# Altium schematic symbol library kmilo17pet-LT_PMIC_LT.SchLib: 2252 symbols (part 99 of 124)
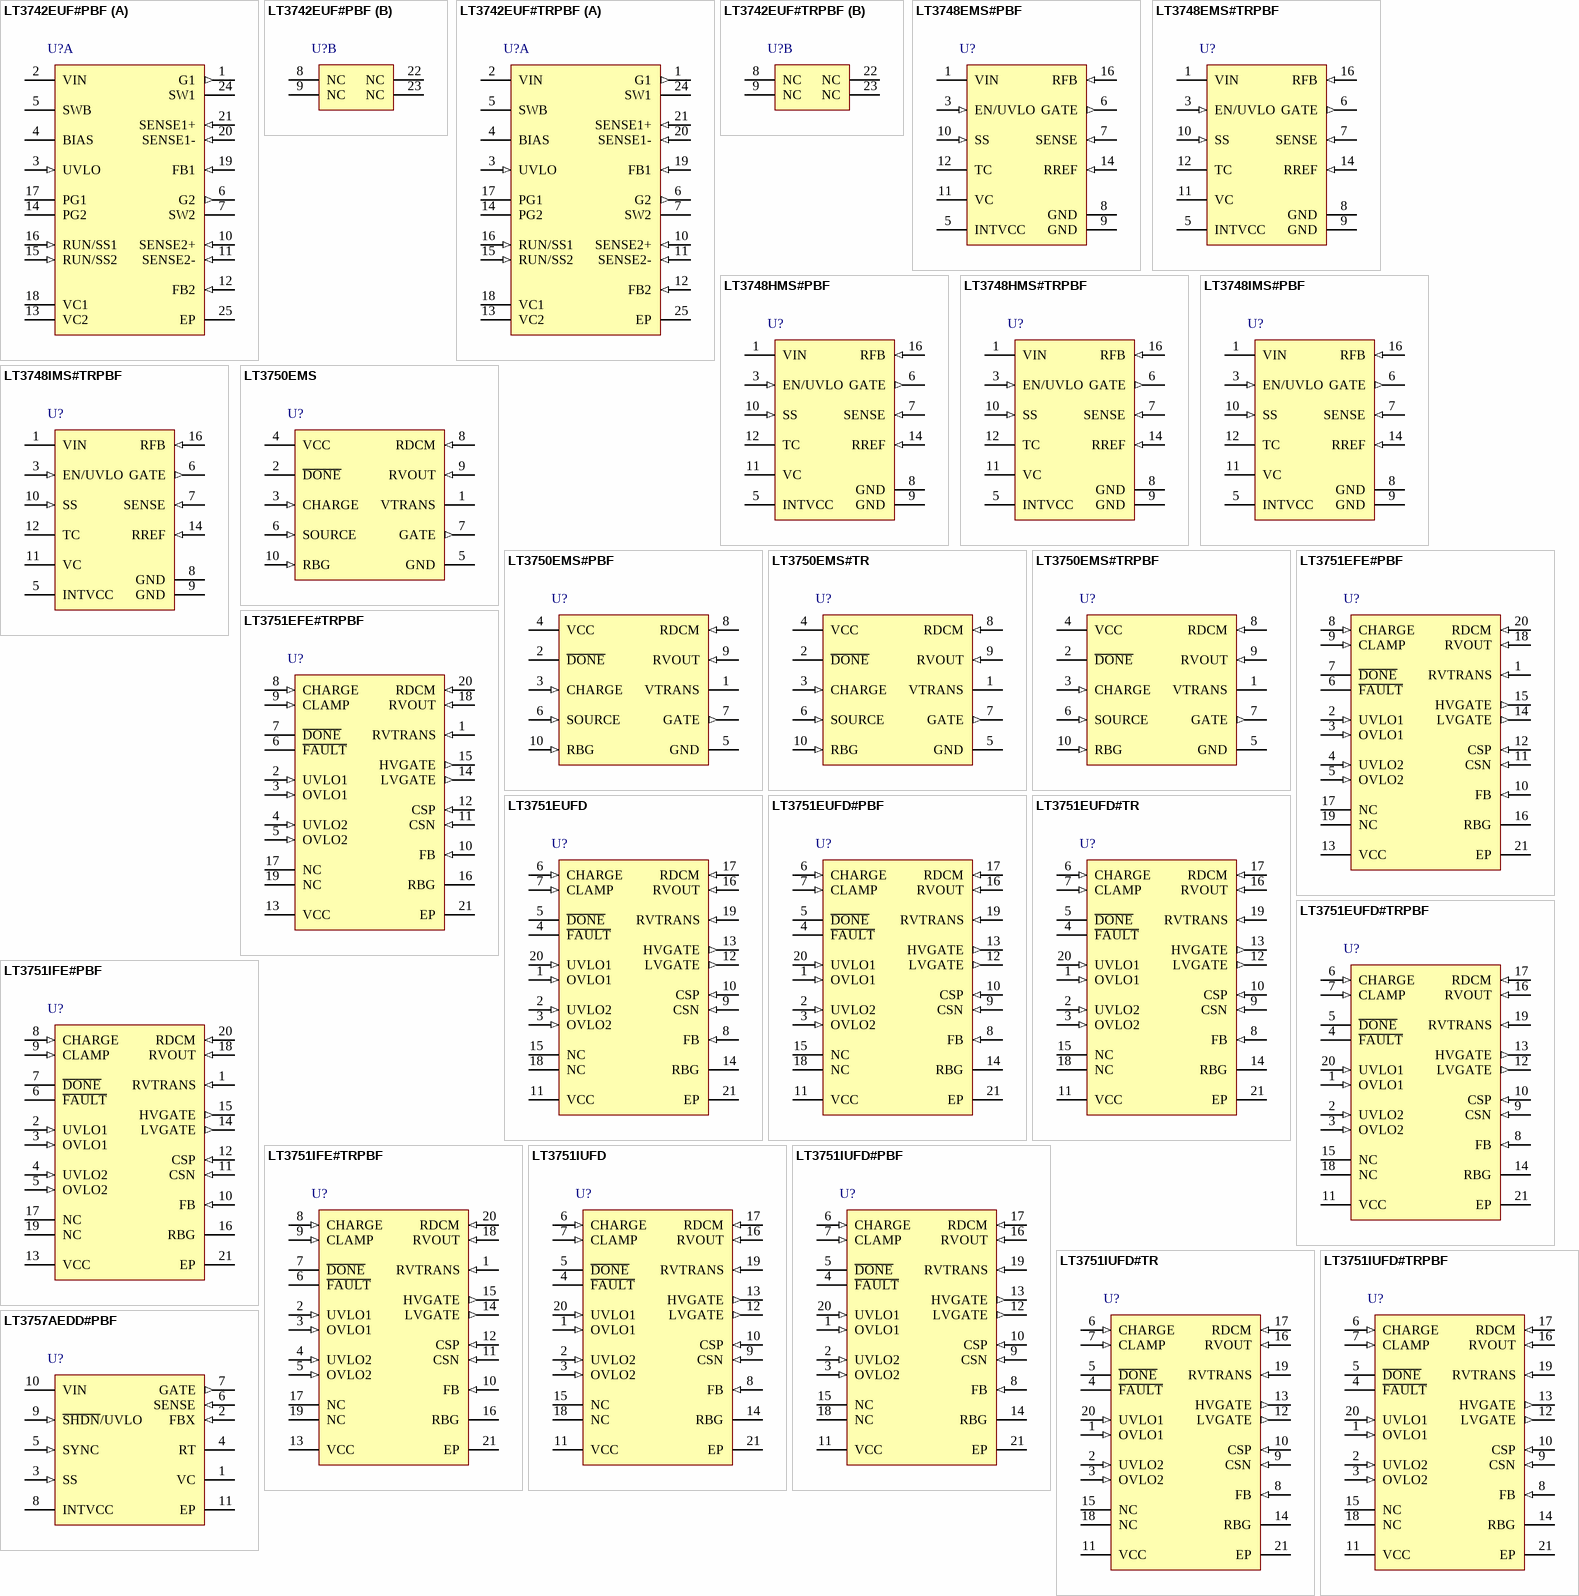
[diagram p169: symbols LT3742EUF#PBF to LT3757AEDD#PBF]

## LT3750EMS#TR
designator U?
Capacitor Charger Controller, 10-pin SOP (MS-10), -40 to 85 degC, Tape and Reel; Manufacturer: Linear Technology; PartNumber: LT3750EMS#TR; Number of Outputs: 1; PackageReference: MS-10; PackageDescription: 10-Pin Plastic MSOP, Body 3 x 3 mm, Pitch 0.5 mm; RoHS: FALSE
footprint LT-MS-10_N (SOP, 10-Leads, Body 3.1x3.1mm, Pitch 0.5mm, IPC Medium Density)
footprint LT-MS-10_L (SOP, 10-Leads, Body 3.1x3.1mm, Pitch 0.5mm, IPC High Density)
footprint LT-MS-10_M (SOP, 10-Leads, Body 3.1x3.1mm, Pitch 0.5mm, IPC Low Density)
pins: 1 VTRANS (power) "Transformer Supply Pin. Powers the primary coil of the transformer as well as internal circuitry that performs boundary mode detection. Bypass at the pin with a 1uF to 10uF capacitor. Bypass the primary winding of the (See Datasheet)", 2 ~{DONE} (oc) "Open Collector Indication Pin. When target output voltage is reached, an NPN transistor turns on. Requires a pull-up resistor or current source. Any fault conditions such as thermal shutdown or undervoltage lockout will also (See Datasheet)", 3 CHARGE (in) "Charge Pin. Initiates a new charge cycle when brought high or discontinues charging and puts part into shutdown when low. To properly enable the device, a step input with a minimum ramp rate of 1V/us is required. Drive to 1.(See Datasheet)", 4 VCC (power) "Input Supply Pin. Bypass locally with a ceramic capacitor. A 1uF to 10uF ceramic capacitor should be sufficient for most applications.", 5 GND (power) "Ground Pin. Connect directly to local ground plane.", 6 SOURCE (in) "Source Pin. Senses NMOS drain current. Connect NMOS source terminal and current sense resistor to this pin. The current limit is 78mV/RSENSE.", 7 GATE (out) "Gate Pin. Connect NMOS gate terminal to this pin. Internal gate driver will drive voltage to within VCC - 2V during each switching cycle.", 8 RDCM (in) "Discontinuous Mode Sense Pin. Senses when current in transformer has decayed to zero and initiates a new charge cycle if output voltage target has not been reached. Place a resistor between this pin and the drain of the NMOS.(See Datasheet)", 9 RVOUT (in) "Output Voltage VI Converter Pin. Develops a current proportional to output capacitor voltage. Connect a resistor between this pin and the drain of the NMOS.", 10 RBG (in) "Output Voltage Sense Pin. Senses the voltage across the RBG resistor, which is proportional to the current flowing into the RVOUT pin. When voltage equals 1.24V, charging is disabled and D\O\N\E\ pin goes low. Connect a (See Datasheet)"

## LT3750EMS#TRPBF
designator U?
Capacitor Charger Controller, 10-pin SOP (MS-10), -40 to 85 degC, Pb-Free, Tape and Reel; Manufacturer: Linear Technology; PartNumber: LT3750EMS#TRPBF; Number of Outputs: 1; PackageReference: MS-10; PackageDescription: 10-Pin Plastic MSOP, Body 3 x 3 mm, Pitch 0.5 mm; Supplier 1: Digi-Key; Supplier Part Number 1: LT3750EMS#TRPBF-ND; RoHS: TRUE
footprint LT-MS-10_N (SOP, 10-Leads, Body 3.1x3.1mm, Pitch 0.5mm, IPC Medium Density)
footprint LT-MS-10_L (SOP, 10-Leads, Body 3.1x3.1mm, Pitch 0.5mm, IPC High Density)
footprint LT-MS-10_M (SOP, 10-Leads, Body 3.1x3.1mm, Pitch 0.5mm, IPC Low Density)
pins: 1 VTRANS (power) "Transformer Supply Pin. Powers the primary coil of the transformer as well as internal circuitry that performs boundary mode detection. Bypass at the pin with a 1uF to 10uF capacitor. Bypass the primary winding of the (See Datasheet)", 2 ~{DONE} (oc) "Open Collector Indication Pin. When target output voltage is reached, an NPN transistor turns on. Requires a pull-up resistor or current source. Any fault conditions such as thermal shutdown or undervoltage lockout will also (See Datasheet)", 3 CHARGE (in) "Charge Pin. Initiates a new charge cycle when brought high or discontinues charging and puts part into shutdown when low. To properly enable the device, a step input with a minimum ramp rate of 1V/us is required. Drive to 1.(See Datasheet)", 4 VCC (power) "Input Supply Pin. Bypass locally with a ceramic capacitor. A 1uF to 10uF ceramic capacitor should be sufficient for most applications.", 5 GND (power) "Ground Pin. Connect directly to local ground plane.", 6 SOURCE (in) "Source Pin. Senses NMOS drain current. Connect NMOS source terminal and current sense resistor to this pin. The current limit is 78mV/RSENSE.", 7 GATE (out) "Gate Pin. Connect NMOS gate terminal to this pin. Internal gate driver will drive voltage to within VCC - 2V during each switching cycle.", 8 RDCM (in) "Discontinuous Mode Sense Pin. Senses when current in transformer has decayed to zero and initiates a new charge cycle if output voltage target has not been reached. Place a resistor between this pin and the drain of the NMOS.(See Datasheet)", 9 RVOUT (in) "Output Voltage VI Converter Pin. Develops a current proportional to output capacitor voltage. Connect a resistor between this pin and the drain of the NMOS.", 10 RBG (in) "Output Voltage Sense Pin. Senses the voltage across the RBG resistor, which is proportional to the current flowing into the RVOUT pin. When voltage equals 1.24V, charging is disabled and D\O\N\E\ pin goes low. Connect a (See Datasheet)"

## LT3751EFE#PBF
designator U?
Capacitor Charger Controller with Regulation, 20-pin SOP (FE-20-EPV-CB), -40 to 125 degC, Pb-Free; Manufacturer: Linear Technology; PartNumber: LT3751EFE#PBF; Number of Outputs: 1; PackageReference: FE-20; PackageDescription: 20-Pin Plastic TSSOP, Body 6.5 x 4.4 mm, Pitch 0.65 mm; Supplier 1: Digi-Key; Supplier Part Number 1: LT3751EFE#PBF-ND; RoHS: TRUE
footprint LT-FE-20-EPV-CB_N (SOP, 20-Leads, Body 6.6x4.5mm, Pitch 0.65mm, Thermal Pad 3.86x2.74mm, IPC Medium Density)
footprint LT-FE-20-EPV-CB_L (SOP, 20-Leads, Body 6.6x4.5mm, Pitch 0.65mm, Thermal Pad 3.86x2.74mm, IPC High Density)
footprint LT-FE-20-EPV-CB_M (SOP, 20-Leads, Body 6.6x4.5mm, Pitch 0.65mm, Thermal Pad 3.86x2.74mm, IPC Low Density)
pins: 1 RVTRANS (in) "Transformer Supply Sense Pin. Connect a resistor between the RVTRANS pin and the VTRANS supply. Refer to Table 2 for proper sizing of the RVTRANS resistor. The minimum operation voltage for VTRANS is 4.75V.", 2 UVLO1 (in) "VTRANS Undervoltage Lockout Pin. Senses when VTRANS drops below: VUVLO1 = 1.225+ 50uA •RUVLO1 and trips the F\A\U\L\T\ latch low, disabling switching. After VTRANS rises above VUVLO1, toggling the CHARGE pin reactivate(See Datasheet)", 3 OVLO1 (in) "VTRANS Overvoltage Lockout Pin. Senses when VTRANS rises above: VOVLO1 = 1.225+ 50uA •ROVLO1 and trips the F\A\U\L\T\ latch low, disabling switching. After VTRANS drops below VOVLO1, toggling the CHARGE pin reactivate(See Datasheet)", 4 UVLO2 (in) "VCC Undervoltage Lockout Pin. Senses when VCC drops below: VUVLO2 = 1.225+ 50uA •RUVLO2 and trips the F\A\U\L\T\ latch low, disabling switching. After VCC rises above VUVLO2, toggling the CHARGE pin reactivates switching.", 5 OVLO2 (in) "VCC Overvoltage Lockout Pin. Senses when VCC rises above: VOVLO2 = 1.225+ 50uA •ROVLO2 and trips the F\A\U\L\T\ latch low, disabling switching. After VCC drops below VOVLO2, toggling the CHARGE pin reactivates switching.", 6 ~{FAULT} (oc) "Open Collector Indication Pin. When either VTRANS or VCC exceeds the user-selected voltage range, or an internal UVLO condition occurs, a transistor turns on. The part will stop switching. This pin needs a proper pull-up (See Datasheet)", 7 ~{DONE} (oc) "Open Collector Indication Pin. When the target output voltage (charge mode) is reached or the F\A\U\L\T\ pin goes low, a transistor turns on. This pin needs a proper pull-up resistor or current source.", 8 CHARGE (in) "Charge Pin. Initiates a new charge cycle (charge mode) or enables the part (regulation mode) when driven higher than 1.5V. Bring this pin below 0.3V to discontinue charging and put the part into shutdown. Turn-on ramp rates (See Datasheet)", 9 CLAMP (in) "Internal Clamp Voltage Selection Pin. Tie this pin to VCC to activate the internal 5.6V gate driver clamp. Tie this pin to ground to activate the internal 10.5V gate driver clamp.", 10 FB (in) "Feedback Regulation Pin. Use this pin to achieve low noise voltage regulation. FB is internally regulated to 1.22V when a resistive divider is tied from this pin to the output. FB pin should not float. Tie FB pin to either a (See Datasheet)", 11 CSN (in) "Negative Current Sense Pin. Senses external NMOS source current. Connect to local RSENSE ground connection for proper Kelvin sensing. The current limit is set by 106mV/RSENSE.", 12 CSP (in) "Positive Current Sense Pin. Senses NMOS source current. Connect the NMOS source terminal and the current sense resistor to this pin. The current limit is fixed at 106mV/RSENSE in charge mode. The current limit can be reduced (See Datasheet)", 13 VCC (power) "Input Supply Pin. Must be locally bypassed with high grade (X5R or better) ceramic capacitor. The minimum operating voltage for VCC is 4.75V.", 14 LVGATE (out) "Low Voltage Gate Pin. Connect the NMOS gate terminal to this pin when operating VCC below 8V. The internal gate driver will drive the voltage to the VCC rail. When operating VCC higher than 8V, tie this pin directly to VCC.", 15 HVGATE (out) "High Voltage Gate Pin. Connect NMOS gate terminal to this pin for all VCC operating voltages. Internal gate driver will drive the voltage to within VCC -2V during each switch cycle.", 16 RBG "Bias Generation Pin. Generates a bias current set by 0.98V/RBG. Select RBG to achieve desired resistance for RDCM, RVOUT, and RVTRANS.", 17 NC "No Connection.", 18 RVOUT (in) "Output Voltage Sense Pin. Develops a current proportional to the output capacitor voltage.", 19 NC "No Connection.", 20 RDCM (in) "Discontinuous Mode Sense Pin. Senses when the external NMOS drain is equal to 20uA ?RDCM + VTRANS and initiates the next switch cycle. Place a resistor equal to 0.45 times the resistor on the RVTRANS pin between this pi(See Datasheet)", 21 EP (power) "Ground. Tie directly to local ground plane."

## LT3751EFE#TRPBF
designator U?
Capacitor Charger Controller with Regulation, 20-pin SOP (FE-20-EPV-CB), -40 to 125 degC, Pb-Free, Tape and Reel; Manufacturer: Linear Technology; PartNumber: LT3751EFE#TRPBF; Number of Outputs: 1; PackageReference: FE-20; PackageDescription: 20-Pin Plastic TSSOP, Body 6.5 x 4.4 mm, Pitch 0.65 mm; Supplier 1: Digi-Key; Supplier Part Number 1: LT3751EFE#TRPBF-ND; RoHS: TRUE
footprint LT-FE-20-EPV-CB_N (SOP, 20-Leads, Body 6.6x4.5mm, Pitch 0.65mm, Thermal Pad 3.86x2.74mm, IPC Medium Density)
footprint LT-FE-20-EPV-CB_L (SOP, 20-Leads, Body 6.6x4.5mm, Pitch 0.65mm, Thermal Pad 3.86x2.74mm, IPC High Density)
footprint LT-FE-20-EPV-CB_M (SOP, 20-Leads, Body 6.6x4.5mm, Pitch 0.65mm, Thermal Pad 3.86x2.74mm, IPC Low Density)
pins: 1 RVTRANS (in) "Transformer Supply Sense Pin. Connect a resistor between the RVTRANS pin and the VTRANS supply. Refer to Table 2 for proper sizing of the RVTRANS resistor. The minimum operation voltage for VTRANS is 4.75V.", 2 UVLO1 (in) "VTRANS Undervoltage Lockout Pin. Senses when VTRANS drops below: VUVLO1 = 1.225+ 50uA •RUVLO1 and trips the F\A\U\L\T\ latch low, disabling switching. After VTRANS rises above VUVLO1, toggling the CHARGE pin reactivate(See Datasheet)", 3 OVLO1 (in) "VTRANS Overvoltage Lockout Pin. Senses when VTRANS rises above: VOVLO1 = 1.225+ 50uA •ROVLO1 and trips the F\A\U\L\T\ latch low, disabling switching. After VTRANS drops below VOVLO1, toggling the CHARGE pin reactivate(See Datasheet)", 4 UVLO2 (in) "VCC Undervoltage Lockout Pin. Senses when VCC drops below: VUVLO2 = 1.225+ 50uA •RUVLO2 and trips the F\A\U\L\T\ latch low, disabling switching. After VCC rises above VUVLO2, toggling the CHARGE pin reactivates switching.", 5 OVLO2 (in) "VCC Overvoltage Lockout Pin. Senses when VCC rises above: VOVLO2 = 1.225+ 50uA •ROVLO2 and trips the F\A\U\L\T\ latch low, disabling switching. After VCC drops below VOVLO2, toggling the CHARGE pin reactivates switching.", 6 ~{FAULT} (oc) "Open Collector Indication Pin. When either VTRANS or VCC exceeds the user-selected voltage range, or an internal UVLO condition occurs, a transistor turns on. The part will stop switching. This pin needs a proper pull-up (See Datasheet)", 7 ~{DONE} (oc) "Open Collector Indication Pin. When the target output voltage (charge mode) is reached or the F\A\U\L\T\ pin goes low, a transistor turns on. This pin needs a proper pull-up resistor or current source.", 8 CHARGE (in) "Charge Pin. Initiates a new charge cycle (charge mode) or enables the part (regulation mode) when driven higher than 1.5V. Bring this pin below 0.3V to discontinue charging and put the part into shutdown. Turn-on ramp rates (See Datasheet)", 9 CLAMP (in) "Internal Clamp Voltage Selection Pin. Tie this pin to VCC to activate the internal 5.6V gate driver clamp. Tie this pin to ground to activate the internal 10.5V gate driver clamp.", 10 FB (in) "Feedback Regulation Pin. Use this pin to achieve low noise voltage regulation. FB is internally regulated to 1.22V when a resistive divider is tied from this pin to the output. FB pin should not float. Tie FB pin to either a (See Datasheet)", 11 CSN (in) "Negative Current Sense Pin. Senses external NMOS source current. Connect to local RSENSE ground connection for proper Kelvin sensing. The current limit is set by 106mV/RSENSE.", 12 CSP (in) "Positive Current Sense Pin. Senses NMOS source current. Connect the NMOS source terminal and the current sense resistor to this pin. The current limit is fixed at 106mV/RSENSE in charge mode. The current limit can be reduced (See Datasheet)", 13 VCC (power) "Input Supply Pin. Must be locally bypassed with high grade (X5R or better) ceramic capacitor. The minimum operating voltage for VCC is 4.75V.", 14 LVGATE (out) "Low Voltage Gate Pin. Connect the NMOS gate terminal to this pin when operating VCC below 8V. The internal gate driver will drive the voltage to the VCC rail. When operating VCC higher than 8V, tie this pin directly to VCC.", 15 HVGATE (out) "High Voltage Gate Pin. Connect NMOS gate terminal to this pin for all VCC operating voltages. Internal gate driver will drive the voltage to within VCC -2V during each switch cycle.", 16 RBG "Bias Generation Pin. Generates a bias current set by 0.98V/RBG. Select RBG to achieve desired resistance for RDCM, RVOUT, and RVTRANS.", 17 NC "No Connection.", 18 RVOUT (in) "Output Voltage Sense Pin. Develops a current proportional to the output capacitor voltage.", 19 NC "No Connection.", 20 RDCM (in) "Discontinuous Mode Sense Pin. Senses when the external NMOS drain is equal to 20uA ?RDCM + VTRANS and initiates the next switch cycle. Place a resistor equal to 0.45 times the resistor on the RVTRANS pin between this pi(See Datasheet)", 21 EP (power) "Ground. Tie directly to local ground plane."

## LT3751EUFD
designator U?
Capacitor Charger Controller with Regulation, 20-pin QFN (UFD-20), -40 to 125 degC; Manufacturer: Linear Technology; PartNumber: LT3751EUFD; Number of Outputs: 1; PackageReference: UFD-20; PackageDescription: 20-Pin Plastic QFN, Body 5 x 4 mm, Pitch 0.5 mm; RoHS: FALSE
footprint LT-UFD-20_N (QFN, 20-Leads, Body 5.1x4.1mm, Pitch 0.5mm, Thermal Pad 2.65x3.65mm, IPC Medium Density)
footprint LT-UFD-20_L (QFN, 20-Leads, Body 5.1x4.1mm, Pitch 0.5mm, Thermal Pad 2.65x3.65mm, IPC High Density)
footprint LT-UFD-20_M (QFN, 20-Leads, Body 5.1x4.1mm, Pitch 0.5mm, Thermal Pad 2.65x3.65mm, IPC Low Density)
pins: 1 OVLO1 (in) "VTRANS Overvoltage Lockout Pin. Senses when VTRANS rises above: VOVLO1 = 1.225+ 50uA •ROVLO1 and trips the F\A\U\L\T\ latch low, disabling switching. After VTRANS drops below VOVLO1, toggling the CHARGE pin reactivate(See Datasheet)", 2 UVLO2 (in) "VCC Undervoltage Lockout Pin. Senses when VCC drops below: VUVLO2 = 1.225+ 50uA •RUVLO2 and trips the F\A\U\L\T\ latch low, disabling switching. After VCC rises above VUVLO2, toggling the CHARGE pin reactivates switching.", 3 OVLO2 (in) "VCC Overvoltage Lockout Pin. Senses when VCC rises above: VOVLO2 = 1.225+ 50uA •ROVLO2 and trips the F\A\U\L\T\ latch low, disabling switching. After VCC drops below VOVLO2, toggling the CHARGE pin reactivates switching.", 4 ~{FAULT} (oc) "Open Collector Indication Pin. When either VTRANS or VCC exceeds the user-selected voltage range, or an internal UVLO condition occurs, a transistor turns on. The part will stop switching. This pin needs a proper pull-up (See Datasheet)", 5 ~{DONE} (oc) "Open Collector Indication Pin. When the target output voltage (charge mode) is reached or the F\A\U\L\T\ pin goes low, a transistor turns on. This pin needs a proper pull-up resistor or current source.", 6 CHARGE (in) "Charge Pin. Initiates a new charge cycle (charge mode) or enables the part (regulation mode) when driven higher than 1.5V. Bring this pin below 0.3V to discontinue charging and put the part into shutdown. Turn-on ramp rates (See Datasheet)", 7 CLAMP (in) "Internal Clamp Voltage Selection Pin. Tie this pin to VCC to activate the internal 5.6V gate driver clamp. Tie this pin to ground to activate the internal 10.5V gate driver clamp.", 8 FB (in) "Feedback Regulation Pin. Use this pin to achieve low noise voltage regulation. FB is internally regulated to 1.22V when a resistive divider is tied from this pin to the output. FB pin should not float. Tie FB pin to either a (See Datasheet)", 9 CSN (in) "Negative Current Sense Pin. Senses external NMOS source current. Connect to local RSENSE ground connection for proper Kelvin sensing. The current limit is set by 106mV/RSENSE.", 10 CSP (in) "Positive Current Sense Pin. Senses NMOS source current. Connect the NMOS source terminal and the current sense resistor to this pin. The current limit is fixed at 106mV/RSENSE in charge mode. The current limit can be reduced (See Datasheet)", 11 VCC (power) "Input Supply Pin. Must be locally bypassed with high grade (X5R or better) ceramic capacitor. The minimum operating voltage for VCC is 4.75V.", 12 LVGATE (out) "Low Voltage Gate Pin. Connect the NMOS gate terminal to this pin when operating VCC below 8V. The internal gate driver will drive the voltage to the VCC rail. When operating VCC higher than 8V, tie this pin directly to VCC.", 13 HVGATE (out) "High Voltage Gate Pin. Connect NMOS gate terminal to this pin for all VCC operating voltages. Internal gate driver will drive the voltage to within VCC -2V during each switch cycle.", 14 RBG "Bias Generation Pin. Generates a bias current set by 0.98V/RBG. Select RBG to achieve desired resistance for RDCM, RVOUT, and RVTRANS.", 15 NC "No Connection.", 16 RVOUT (in) "Output Voltage Sense Pin. Develops a current proportional to the output capacitor voltage.", 17 RDCM (in) "Discontinuous Mode Sense Pin. Senses when the external NMOS drain is equal to 20uA ?RDCM + VTRANS and initiates the next switch cycle. Place a resistor equal to 0.45 times the resistor on the RVTRANS pin between this pi(See Datasheet)", 18 NC "No Connection.", 19 RVTRANS (in) "Transformer Supply Sense Pin. Connect a resistor between the RVTRANS pin and the VTRANS supply. Refer to Table 2 for proper sizing of the RVTRANS resistor. The minimum operation voltage for VTRANS is 4.75V.", 20 UVLO1 (in) "VTRANS Undervoltage Lockout Pin. Senses when VTRANS drops below: VUVLO1 = 1.225+ 50uA •RUVLO1 and trips the F\A\U\L\T\ latch low, disabling switching. After VTRANS rises above VUVLO1, toggling the CHARGE pin reactivate(See Datasheet)", 21 EP (power) "Ground. Tie directly to local ground plane."

## LT3751EUFD#PBF
designator U?
Capacitor Charger Controller with Regulation, 20-pin QFN (UFD-20), -40 to 125 degC, Pb-Free; Manufacturer: Linear Technology; PartNumber: LT3751EUFD#PBF; Number of Outputs: 1; PackageReference: UFD-20; PackageDescription: 20-Pin Plastic QFN, Body 5 x 4 mm, Pitch 0.5 mm; Supplier 1: Digi-Key; Supplier Part Number 1: LT3751EUFD#PBF-ND; RoHS: TRUE
footprint LT-UFD-20_N (QFN, 20-Leads, Body 5.1x4.1mm, Pitch 0.5mm, Thermal Pad 2.65x3.65mm, IPC Medium Density)
footprint LT-UFD-20_L (QFN, 20-Leads, Body 5.1x4.1mm, Pitch 0.5mm, Thermal Pad 2.65x3.65mm, IPC High Density)
footprint LT-UFD-20_M (QFN, 20-Leads, Body 5.1x4.1mm, Pitch 0.5mm, Thermal Pad 2.65x3.65mm, IPC Low Density)
pins: 1 OVLO1 (in) "VTRANS Overvoltage Lockout Pin. Senses when VTRANS rises above: VOVLO1 = 1.225+ 50uA •ROVLO1 and trips the F\A\U\L\T\ latch low, disabling switching. After VTRANS drops below VOVLO1, toggling the CHARGE pin reactivate(See Datasheet)", 2 UVLO2 (in) "VCC Undervoltage Lockout Pin. Senses when VCC drops below: VUVLO2 = 1.225+ 50uA •RUVLO2 and trips the F\A\U\L\T\ latch low, disabling switching. After VCC rises above VUVLO2, toggling the CHARGE pin reactivates switching.", 3 OVLO2 (in) "VCC Overvoltage Lockout Pin. Senses when VCC rises above: VOVLO2 = 1.225+ 50uA •ROVLO2 and trips the F\A\U\L\T\ latch low, disabling switching. After VCC drops below VOVLO2, toggling the CHARGE pin reactivates switching.", 4 ~{FAULT} (oc) "Open Collector Indication Pin. When either VTRANS or VCC exceeds the user-selected voltage range, or an internal UVLO condition occurs, a transistor turns on. The part will stop switching. This pin needs a proper pull-up (See Datasheet)", 5 ~{DONE} (oc) "Open Collector Indication Pin. When the target output voltage (charge mode) is reached or the F\A\U\L\T\ pin goes low, a transistor turns on. This pin needs a proper pull-up resistor or current source.", 6 CHARGE (in) "Charge Pin. Initiates a new charge cycle (charge mode) or enables the part (regulation mode) when driven higher than 1.5V. Bring this pin below 0.3V to discontinue charging and put the part into shutdown. Turn-on ramp rates (See Datasheet)", 7 CLAMP (in) "Internal Clamp Voltage Selection Pin. Tie this pin to VCC to activate the internal 5.6V gate driver clamp. Tie this pin to ground to activate the internal 10.5V gate driver clamp.", 8 FB (in) "Feedback Regulation Pin. Use this pin to achieve low noise voltage regulation. FB is internally regulated to 1.22V when a resistive divider is tied from this pin to the output. FB pin should not float. Tie FB pin to either a (See Datasheet)", 9 CSN (in) "Negative Current Sense Pin. Senses external NMOS source current. Connect to local RSENSE ground connection for proper Kelvin sensing. The current limit is set by 106mV/RSENSE.", 10 CSP (in) "Positive Current Sense Pin. Senses NMOS source current. Connect the NMOS source terminal and the current sense resistor to this pin. The current limit is fixed at 106mV/RSENSE in charge mode. The current limit can be reduced (See Datasheet)", 11 VCC (power) "Input Supply Pin. Must be locally bypassed with high grade (X5R or better) ceramic capacitor. The minimum operating voltage for VCC is 4.75V.", 12 LVGATE (out) "Low Voltage Gate Pin. Connect the NMOS gate terminal to this pin when operating VCC below 8V. The internal gate driver will drive the voltage to the VCC rail. When operating VCC higher than 8V, tie this pin directly to VCC.", 13 HVGATE (out) "High Voltage Gate Pin. Connect NMOS gate terminal to this pin for all VCC operating voltages. Internal gate driver will drive the voltage to within VCC -2V during each switch cycle.", 14 RBG "Bias Generation Pin. Generates a bias current set by 0.98V/RBG. Select RBG to achieve desired resistance for RDCM, RVOUT, and RVTRANS.", 15 NC "No Connection.", 16 RVOUT (in) "Output Voltage Sense Pin. Develops a current proportional to the output capacitor voltage.", 17 RDCM (in) "Discontinuous Mode Sense Pin. Senses when the external NMOS drain is equal to 20uA ?RDCM + VTRANS and initiates the next switch cycle. Place a resistor equal to 0.45 times the resistor on the RVTRANS pin between this pi(See Datasheet)", 18 NC "No Connection.", 19 RVTRANS (in) "Transformer Supply Sense Pin. Connect a resistor between the RVTRANS pin and the VTRANS supply. Refer to Table 2 for proper sizing of the RVTRANS resistor. The minimum operation voltage for VTRANS is 4.75V.", 20 UVLO1 (in) "VTRANS Undervoltage Lockout Pin. Senses when VTRANS drops below: VUVLO1 = 1.225+ 50uA •RUVLO1 and trips the F\A\U\L\T\ latch low, disabling switching. After VTRANS rises above VUVLO1, toggling the CHARGE pin reactivate(See Datasheet)", 21 EP (power) "Ground. Tie directly to local ground plane."

## LT3751EUFD#TR
designator U?
Capacitor Charger Controller with Regulation, 20-pin QFN (UFD-20), -40 to 125 degC, Tape and Reel; Manufacturer: Linear Technology; PartNumber: LT3751EUFD#TR; Number of Outputs: 1; PackageReference: UFD-20; PackageDescription: 20-Pin Plastic QFN, Body 5 x 4 mm, Pitch 0.5 mm; RoHS: FALSE
footprint LT-UFD-20_N (QFN, 20-Leads, Body 5.1x4.1mm, Pitch 0.5mm, Thermal Pad 2.65x3.65mm, IPC Medium Density)
footprint LT-UFD-20_L (QFN, 20-Leads, Body 5.1x4.1mm, Pitch 0.5mm, Thermal Pad 2.65x3.65mm, IPC High Density)
footprint LT-UFD-20_M (QFN, 20-Leads, Body 5.1x4.1mm, Pitch 0.5mm, Thermal Pad 2.65x3.65mm, IPC Low Density)
pins: 1 OVLO1 (in) "VTRANS Overvoltage Lockout Pin. Senses when VTRANS rises above: VOVLO1 = 1.225+ 50uA •ROVLO1 and trips the F\A\U\L\T\ latch low, disabling switching. After VTRANS drops below VOVLO1, toggling the CHARGE pin reactivate(See Datasheet)", 2 UVLO2 (in) "VCC Undervoltage Lockout Pin. Senses when VCC drops below: VUVLO2 = 1.225+ 50uA •RUVLO2 and trips the F\A\U\L\T\ latch low, disabling switching. After VCC rises above VUVLO2, toggling the CHARGE pin reactivates switching.", 3 OVLO2 (in) "VCC Overvoltage Lockout Pin. Senses when VCC rises above: VOVLO2 = 1.225+ 50uA •ROVLO2 and trips the F\A\U\L\T\ latch low, disabling switching. After VCC drops below VOVLO2, toggling the CHARGE pin reactivates switching.", 4 ~{FAULT} (oc) "Open Collector Indication Pin. When either VTRANS or VCC exceeds the user-selected voltage range, or an internal UVLO condition occurs, a transistor turns on. The part will stop switching. This pin needs a proper pull-up (See Datasheet)", 5 ~{DONE} (oc) "Open Collector Indication Pin. When the target output voltage (charge mode) is reached or the F\A\U\L\T\ pin goes low, a transistor turns on. This pin needs a proper pull-up resistor or current source.", 6 CHARGE (in) "Charge Pin. Initiates a new charge cycle (charge mode) or enables the part (regulation mode) when driven higher than 1.5V. Bring this pin below 0.3V to discontinue charging and put the part into shutdown. Turn-on ramp rates (See Datasheet)", 7 CLAMP (in) "Internal Clamp Voltage Selection Pin. Tie this pin to VCC to activate the internal 5.6V gate driver clamp. Tie this pin to ground to activate the internal 10.5V gate driver clamp.", 8 FB (in) "Feedback Regulation Pin. Use this pin to achieve low noise voltage regulation. FB is internally regulated to 1.22V when a resistive divider is tied from this pin to the output. FB pin should not float. Tie FB pin to either a (See Datasheet)", 9 CSN (in) "Negative Current Sense Pin. Senses external NMOS source current. Connect to local RSENSE ground connection for proper Kelvin sensing. The current limit is set by 106mV/RSENSE.", 10 CSP (in) "Positive Current Sense Pin. Senses NMOS source current. Connect the NMOS source terminal and the current sense resistor to this pin. The current limit is fixed at 106mV/RSENSE in charge mode. The current limit can be reduced (See Datasheet)", 11 VCC (power) "Input Supply Pin. Must be locally bypassed with high grade (X5R or better) ceramic capacitor. The minimum operating voltage for VCC is 4.75V.", 12 LVGATE (out) "Low Voltage Gate Pin. Connect the NMOS gate terminal to this pin when operating VCC below 8V. The internal gate driver will drive the voltage to the VCC rail. When operating VCC higher than 8V, tie this pin directly to VCC.", 13 HVGATE (out) "High Voltage Gate Pin. Connect NMOS gate terminal to this pin for all VCC operating voltages. Internal gate driver will drive the voltage to within VCC -2V during each switch cycle.", 14 RBG "Bias Generation Pin. Generates a bias current set by 0.98V/RBG. Select RBG to achieve desired resistance for RDCM, RVOUT, and RVTRANS.", 15 NC "No Connection.", 16 RVOUT (in) "Output Voltage Sense Pin. Develops a current proportional to the output capacitor voltage.", 17 RDCM (in) "Discontinuous Mode Sense Pin. Senses when the external NMOS drain is equal to 20uA ?RDCM + VTRANS and initiates the next switch cycle. Place a resistor equal to 0.45 times the resistor on the RVTRANS pin between this pi(See Datasheet)", 18 NC "No Connection.", 19 RVTRANS (in) "Transformer Supply Sense Pin. Connect a resistor between the RVTRANS pin and the VTRANS supply. Refer to Table 2 for proper sizing of the RVTRANS resistor. The minimum operation voltage for VTRANS is 4.75V.", 20 UVLO1 (in) "VTRANS Undervoltage Lockout Pin. Senses when VTRANS drops below: VUVLO1 = 1.225+ 50uA •RUVLO1 and trips the F\A\U\L\T\ latch low, disabling switching. After VTRANS rises above VUVLO1, toggling the CHARGE pin reactivate(See Datasheet)", 21 EP (power) "Ground. Tie directly to local ground plane."

## LT3751EUFD#TRPBF
designator U?
Capacitor Charger Controller with Regulation, 20-pin QFN (UFD-20), -40 to 125 degC, Pb-Free, Tape and Reel; Manufacturer: Linear Technology; PartNumber: LT3751EUFD#TRPBF; Number of Outputs: 1; PackageReference: UFD-20; PackageDescription: 20-Pin Plastic QFN, Body 5 x 4 mm, Pitch 0.5 mm; Supplier 1: Digi-Key; Supplier Part Number 1: LT3751EUFD#TRPBF-ND; RoHS: TRUE
footprint LT-UFD-20_N (QFN, 20-Leads, Body 5.1x4.1mm, Pitch 0.5mm, Thermal Pad 2.65x3.65mm, IPC Medium Density)
footprint LT-UFD-20_L (QFN, 20-Leads, Body 5.1x4.1mm, Pitch 0.5mm, Thermal Pad 2.65x3.65mm, IPC High Density)
footprint LT-UFD-20_M (QFN, 20-Leads, Body 5.1x4.1mm, Pitch 0.5mm, Thermal Pad 2.65x3.65mm, IPC Low Density)
pins: 1 OVLO1 (in) "VTRANS Overvoltage Lockout Pin. Senses when VTRANS rises above: VOVLO1 = 1.225+ 50uA •ROVLO1 and trips the F\A\U\L\T\ latch low, disabling switching. After VTRANS drops below VOVLO1, toggling the CHARGE pin reactivate(See Datasheet)", 2 UVLO2 (in) "VCC Undervoltage Lockout Pin. Senses when VCC drops below: VUVLO2 = 1.225+ 50uA •RUVLO2 and trips the F\A\U\L\T\ latch low, disabling switching. After VCC rises above VUVLO2, toggling the CHARGE pin reactivates switching.", 3 OVLO2 (in) "VCC Overvoltage Lockout Pin. Senses when VCC rises above: VOVLO2 = 1.225+ 50uA •ROVLO2 and trips the F\A\U\L\T\ latch low, disabling switching. After VCC drops below VOVLO2, toggling the CHARGE pin reactivates switching.", 4 ~{FAULT} (oc) "Open Collector Indication Pin. When either VTRANS or VCC exceeds the user-selected voltage range, or an internal UVLO condition occurs, a transistor turns on. The part will stop switching. This pin needs a proper pull-up (See Datasheet)", 5 ~{DONE} (oc) "Open Collector Indication Pin. When the target output voltage (charge mode) is reached or the F\A\U\L\T\ pin goes low, a transistor turns on. This pin needs a proper pull-up resistor or current source.", 6 CHARGE (in) "Charge Pin. Initiates a new charge cycle (charge mode) or enables the part (regulation mode) when driven higher than 1.5V. Bring this pin below 0.3V to discontinue charging and put the part into shutdown. Turn-on ramp rates (See Datasheet)", 7 CLAMP (in) "Internal Clamp Voltage Selection Pin. Tie this pin to VCC to activate the internal 5.6V gate driver clamp. Tie this pin to ground to activate the internal 10.5V gate driver clamp.", 8 FB (in) "Feedback Regulation Pin. Use this pin to achieve low noise voltage regulation. FB is internally regulated to 1.22V when a resistive divider is tied from this pin to the output. FB pin should not float. Tie FB pin to either a (See Datasheet)", 9 CSN (in) "Negative Current Sense Pin. Senses external NMOS source current. Connect to local RSENSE ground connection for proper Kelvin sensing. The current limit is set by 106mV/RSENSE.", 10 CSP (in) "Positive Current Sense Pin. Senses NMOS source current. Connect the NMOS source terminal and the current sense resistor to this pin. The current limit is fixed at 106mV/RSENSE in charge mode. The current limit can be reduced (See Datasheet)", 11 VCC (power) "Input Supply Pin. Must be locally bypassed with high grade (X5R or better) ceramic capacitor. The minimum operating voltage for VCC is 4.75V.", 12 LVGATE (out) "Low Voltage Gate Pin. Connect the NMOS gate terminal to this pin when operating VCC below 8V. The internal gate driver will drive the voltage to the VCC rail. When operating VCC higher than 8V, tie this pin directly to VCC.", 13 HVGATE (out) "High Voltage Gate Pin. Connect NMOS gate terminal to this pin for all VCC operating voltages. Internal gate driver will drive the voltage to within VCC -2V during each switch cycle.", 14 RBG "Bias Generation Pin. Generates a bias current set by 0.98V/RBG. Select RBG to achieve desired resistance for RDCM, RVOUT, and RVTRANS.", 15 NC "No Connection.", 16 RVOUT (in) "Output Voltage Sense Pin. Develops a current proportional to the output capacitor voltage.", 17 RDCM (in) "Discontinuous Mode Sense Pin. Senses when the external NMOS drain is equal to 20uA ?RDCM + VTRANS and initiates the next switch cycle. Place a resistor equal to 0.45 times the resistor on the RVTRANS pin between this pi(See Datasheet)", 18 NC "No Connection.", 19 RVTRANS (in) "Transformer Supply Sense Pin. Connect a resistor between the RVTRANS pin and the VTRANS supply. Refer to Table 2 for proper sizing of the RVTRANS resistor. The minimum operation voltage for VTRANS is 4.75V.", 20 UVLO1 (in) "VTRANS Undervoltage Lockout Pin. Senses when VTRANS drops below: VUVLO1 = 1.225+ 50uA •RUVLO1 and trips the F\A\U\L\T\ latch low, disabling switching. After VTRANS rises above VUVLO1, toggling the CHARGE pin reactivate(See Datasheet)", 21 EP (power) "Ground. Tie directly to local ground plane."

## LT3751IFE#PBF
designator U?
Capacitor Charger Controller with Regulation, 20-pin SOP (FE-20-EPV-CB), -40 to 125 degC, Pb-Free; Manufacturer: Linear Technology; PartNumber: LT3751IFE#PBF; Number of Outputs: 1; PackageReference: FE-20; PackageDescription: 20-Pin Plastic TSSOP, Body 6.5 x 4.4 mm, Pitch 0.65 mm; Supplier 1: Digi-Key; Supplier Part Number 1: LT3751IFE#PBF-ND; RoHS: TRUE
footprint LT-FE-20-EPV-CB_N (SOP, 20-Leads, Body 6.6x4.5mm, Pitch 0.65mm, Thermal Pad 3.86x2.74mm, IPC Medium Density)
footprint LT-FE-20-EPV-CB_L (SOP, 20-Leads, Body 6.6x4.5mm, Pitch 0.65mm, Thermal Pad 3.86x2.74mm, IPC High Density)
footprint LT-FE-20-EPV-CB_M (SOP, 20-Leads, Body 6.6x4.5mm, Pitch 0.65mm, Thermal Pad 3.86x2.74mm, IPC Low Density)
pins: 1 RVTRANS (in) "Transformer Supply Sense Pin. Connect a resistor between the RVTRANS pin and the VTRANS supply. Refer to Table 2 for proper sizing of the RVTRANS resistor. The minimum operation voltage for VTRANS is 4.75V.", 2 UVLO1 (in) "VTRANS Undervoltage Lockout Pin. Senses when VTRANS drops below: VUVLO1 = 1.225+ 50uA •RUVLO1 and trips the F\A\U\L\T\ latch low, disabling switching. After VTRANS rises above VUVLO1, toggling the CHARGE pin reactivate(See Datasheet)", 3 OVLO1 (in) "VTRANS Overvoltage Lockout Pin. Senses when VTRANS rises above: VOVLO1 = 1.225+ 50uA •ROVLO1 and trips the F\A\U\L\T\ latch low, disabling switching. After VTRANS drops below VOVLO1, toggling the CHARGE pin reactivate(See Datasheet)", 4 UVLO2 (in) "VCC Undervoltage Lockout Pin. Senses when VCC drops below: VUVLO2 = 1.225+ 50uA •RUVLO2 and trips the F\A\U\L\T\ latch low, disabling switching. After VCC rises above VUVLO2, toggling the CHARGE pin reactivates switching.", 5 OVLO2 (in) "VCC Overvoltage Lockout Pin. Senses when VCC rises above: VOVLO2 = 1.225+ 50uA •ROVLO2 and trips the F\A\U\L\T\ latch low, disabling switching. After VCC drops below VOVLO2, toggling the CHARGE pin reactivates switching.", 6 ~{FAULT} (oc) "Open Collector Indication Pin. When either VTRANS or VCC exceeds the user-selected voltage range, or an internal UVLO condition occurs, a transistor turns on. The part will stop switching. This pin needs a proper pull-up (See Datasheet)", 7 ~{DONE} (oc) "Open Collector Indication Pin. When the target output voltage (charge mode) is reached or the F\A\U\L\T\ pin goes low, a transistor turns on. This pin needs a proper pull-up resistor or current source.", 8 CHARGE (in) "Charge Pin. Initiates a new charge cycle (charge mode) or enables the part (regulation mode) when driven higher than 1.5V. Bring this pin below 0.3V to discontinue charging and put the part into shutdown. Turn-on ramp rates (See Datasheet)", 9 CLAMP (in) "Internal Clamp Voltage Selection Pin. Tie this pin to VCC to activate the internal 5.6V gate driver clamp. Tie this pin to ground to activate the internal 10.5V gate driver clamp.", 10 FB (in) "Feedback Regulation Pin. Use this pin to achieve low noise voltage regulation. FB is internally regulated to 1.22V when a resistive divider is tied from this pin to the output. FB pin should not float. Tie FB pin to either a (See Datasheet)", 11 CSN (in) "Negative Current Sense Pin. Senses external NMOS source current. Connect to local RSENSE ground connection for proper Kelvin sensing. The current limit is set by 106mV/RSENSE.", 12 CSP (in) "Positive Current Sense Pin. Senses NMOS source current. Connect the NMOS source terminal and the current sense resistor to this pin. The current limit is fixed at 106mV/RSENSE in charge mode. The current limit can be reduced (See Datasheet)", 13 VCC (power) "Input Supply Pin. Must be locally bypassed with high grade (X5R or better) ceramic capacitor. The minimum operating voltage for VCC is 4.75V.", 14 LVGATE (out) "Low Voltage Gate Pin. Connect the NMOS gate terminal to this pin when operating VCC below 8V. The internal gate driver will drive the voltage to the VCC rail. When operating VCC higher than 8V, tie this pin directly to VCC.", 15 HVGATE (out) "High Voltage Gate Pin. Connect NMOS gate terminal to this pin for all VCC operating voltages. Internal gate driver will drive the voltage to within VCC -2V during each switch cycle.", 16 RBG "Bias Generation Pin. Generates a bias current set by 0.98V/RBG. Select RBG to achieve desired resistance for RDCM, RVOUT, and RVTRANS.", 17 NC "No Connection.", 18 RVOUT (in) "Output Voltage Sense Pin. Develops a current proportional to the output capacitor voltage.", 19 NC "No Connection.", 20 RDCM (in) "Discontinuous Mode Sense Pin. Senses when the external NMOS drain is equal to 20uA ?RDCM + VTRANS and initiates the next switch cycle. Place a resistor equal to 0.45 times the resistor on the RVTRANS pin between this pi(See Datasheet)", 21 EP (power) "Ground. Tie directly to local ground plane."

## LT3751IFE#TRPBF
designator U?
Capacitor Charger Controller with Regulation, 20-pin SOP (FE-20-EPV-CB), -40 to 125 degC, Pb-Free, Tape and Reel; Manufacturer: Linear Technology; PartNumber: LT3751IFE#TRPBF; Number of Outputs: 1; PackageReference: FE-20; PackageDescription: 20-Pin Plastic TSSOP, Body 6.5 x 4.4 mm, Pitch 0.65 mm; Supplier 1: Digi-Key; Supplier Part Number 1: LT3751IFE#TRPBF-ND; RoHS: TRUE
footprint LT-FE-20-EPV-CB_N (SOP, 20-Leads, Body 6.6x4.5mm, Pitch 0.65mm, Thermal Pad 3.86x2.74mm, IPC Medium Density)
footprint LT-FE-20-EPV-CB_L (SOP, 20-Leads, Body 6.6x4.5mm, Pitch 0.65mm, Thermal Pad 3.86x2.74mm, IPC High Density)
footprint LT-FE-20-EPV-CB_M (SOP, 20-Leads, Body 6.6x4.5mm, Pitch 0.65mm, Thermal Pad 3.86x2.74mm, IPC Low Density)
pins: 1 RVTRANS (in) "Transformer Supply Sense Pin. Connect a resistor between the RVTRANS pin and the VTRANS supply. Refer to Table 2 for proper sizing of the RVTRANS resistor. The minimum operation voltage for VTRANS is 4.75V.", 2 UVLO1 (in) "VTRANS Undervoltage Lockout Pin. Senses when VTRANS drops below: VUVLO1 = 1.225+ 50uA •RUVLO1 and trips the F\A\U\L\T\ latch low, disabling switching. After VTRANS rises above VUVLO1, toggling the CHARGE pin reactivate(See Datasheet)", 3 OVLO1 (in) "VTRANS Overvoltage Lockout Pin. Senses when VTRANS rises above: VOVLO1 = 1.225+ 50uA •ROVLO1 and trips the F\A\U\L\T\ latch low, disabling switching. After VTRANS drops below VOVLO1, toggling the CHARGE pin reactivate(See Datasheet)", 4 UVLO2 (in) "VCC Undervoltage Lockout Pin. Senses when VCC drops below: VUVLO2 = 1.225+ 50uA •RUVLO2 and trips the F\A\U\L\T\ latch low, disabling switching. After VCC rises above VUVLO2, toggling the CHARGE pin reactivates switching.", 5 OVLO2 (in) "VCC Overvoltage Lockout Pin. Senses when VCC rises above: VOVLO2 = 1.225+ 50uA •ROVLO2 and trips the F\A\U\L\T\ latch low, disabling switching. After VCC drops below VOVLO2, toggling the CHARGE pin reactivates switching.", 6 ~{FAULT} (oc) "Open Collector Indication Pin. When either VTRANS or VCC exceeds the user-selected voltage range, or an internal UVLO condition occurs, a transistor turns on. The part will stop switching. This pin needs a proper pull-up (See Datasheet)", 7 ~{DONE} (oc) "Open Collector Indication Pin. When the target output voltage (charge mode) is reached or the F\A\U\L\T\ pin goes low, a transistor turns on. This pin needs a proper pull-up resistor or current source.", 8 CHARGE (in) "Charge Pin. Initiates a new charge cycle (charge mode) or enables the part (regulation mode) when driven higher than 1.5V. Bring this pin below 0.3V to discontinue charging and put the part into shutdown. Turn-on ramp rates (See Datasheet)", 9 CLAMP (in) "Internal Clamp Voltage Selection Pin. Tie this pin to VCC to activate the internal 5.6V gate driver clamp. Tie this pin to ground to activate the internal 10.5V gate driver clamp.", 10 FB (in) "Feedback Regulation Pin. Use this pin to achieve low noise voltage regulation. FB is internally regulated to 1.22V when a resistive divider is tied from this pin to the output. FB pin should not float. Tie FB pin to either a (See Datasheet)", 11 CSN (in) "Negative Current Sense Pin. Senses external NMOS source current. Connect to local RSENSE ground connection for proper Kelvin sensing. The current limit is set by 106mV/RSENSE.", 12 CSP (in) "Positive Current Sense Pin. Senses NMOS source current. Connect the NMOS source terminal and the current sense resistor to this pin. The current limit is fixed at 106mV/RSENSE in charge mode. The current limit can be reduced (See Datasheet)", 13 VCC (power) "Input Supply Pin. Must be locally bypassed with high grade (X5R or better) ceramic capacitor. The minimum operating voltage for VCC is 4.75V.", 14 LVGATE (out) "Low Voltage Gate Pin. Connect the NMOS gate terminal to this pin when operating VCC below 8V. The internal gate driver will drive the voltage to the VCC rail. When operating VCC higher than 8V, tie this pin directly to VCC.", 15 HVGATE (out) "High Voltage Gate Pin. Connect NMOS gate terminal to this pin for all VCC operating voltages. Internal gate driver will drive the voltage to within VCC -2V during each switch cycle.", 16 RBG "Bias Generation Pin. Generates a bias current set by 0.98V/RBG. Select RBG to achieve desired resistance for RDCM, RVOUT, and RVTRANS.", 17 NC "No Connection.", 18 RVOUT (in) "Output Voltage Sense Pin. Develops a current proportional to the output capacitor voltage.", 19 NC "No Connection.", 20 RDCM (in) "Discontinuous Mode Sense Pin. Senses when the external NMOS drain is equal to 20uA ?RDCM + VTRANS and initiates the next switch cycle. Place a resistor equal to 0.45 times the resistor on the RVTRANS pin between this pi(See Datasheet)", 21 EP (power) "Ground. Tie directly to local ground plane."

## LT3751IUFD
designator U?
Capacitor Charger Controller with Regulation, 20-pin QFN (UFD-20), -40 to 125 degC; Manufacturer: Linear Technology; PartNumber: LT3751IUFD; Number of Outputs: 1; PackageReference: UFD-20; PackageDescription: 20-Pin Plastic QFN, Body 5 x 4 mm, Pitch 0.5 mm; RoHS: FALSE
footprint LT-UFD-20_N (QFN, 20-Leads, Body 5.1x4.1mm, Pitch 0.5mm, Thermal Pad 2.65x3.65mm, IPC Medium Density)
footprint LT-UFD-20_L (QFN, 20-Leads, Body 5.1x4.1mm, Pitch 0.5mm, Thermal Pad 2.65x3.65mm, IPC High Density)
footprint LT-UFD-20_M (QFN, 20-Leads, Body 5.1x4.1mm, Pitch 0.5mm, Thermal Pad 2.65x3.65mm, IPC Low Density)
pins: 1 OVLO1 (in) "VTRANS Overvoltage Lockout Pin. Senses when VTRANS rises above: VOVLO1 = 1.225+ 50uA •ROVLO1 and trips the F\A\U\L\T\ latch low, disabling switching. After VTRANS drops below VOVLO1, toggling the CHARGE pin reactivate(See Datasheet)", 2 UVLO2 (in) "VCC Undervoltage Lockout Pin. Senses when VCC drops below: VUVLO2 = 1.225+ 50uA •RUVLO2 and trips the F\A\U\L\T\ latch low, disabling switching. After VCC rises above VUVLO2, toggling the CHARGE pin reactivates switching.", 3 OVLO2 (in) "VCC Overvoltage Lockout Pin. Senses when VCC rises above: VOVLO2 = 1.225+ 50uA •ROVLO2 and trips the F\A\U\L\T\ latch low, disabling switching. After VCC drops below VOVLO2, toggling the CHARGE pin reactivates switching.", 4 ~{FAULT} (oc) "Open Collector Indication Pin. When either VTRANS or VCC exceeds the user-selected voltage range, or an internal UVLO condition occurs, a transistor turns on. The part will stop switching. This pin needs a proper pull-up (See Datasheet)", 5 ~{DONE} (oc) "Open Collector Indication Pin. When the target output voltage (charge mode) is reached or the F\A\U\L\T\ pin goes low, a transistor turns on. This pin needs a proper pull-up resistor or current source.", 6 CHARGE (in) "Charge Pin. Initiates a new charge cycle (charge mode) or enables the part (regulation mode) when driven higher than 1.5V. Bring this pin below 0.3V to discontinue charging and put the part into shutdown. Turn-on ramp rates (See Datasheet)", 7 CLAMP (in) "Internal Clamp Voltage Selection Pin. Tie this pin to VCC to activate the internal 5.6V gate driver clamp. Tie this pin to ground to activate the internal 10.5V gate driver clamp.", 8 FB (in) "Feedback Regulation Pin. Use this pin to achieve low noise voltage regulation. FB is internally regulated to 1.22V when a resistive divider is tied from this pin to the output. FB pin should not float. Tie FB pin to either a (See Datasheet)", 9 CSN (in) "Negative Current Sense Pin. Senses external NMOS source current. Connect to local RSENSE ground connection for proper Kelvin sensing. The current limit is set by 106mV/RSENSE.", 10 CSP (in) "Positive Current Sense Pin. Senses NMOS source current. Connect the NMOS source terminal and the current sense resistor to this pin. The current limit is fixed at 106mV/RSENSE in charge mode. The current limit can be reduced (See Datasheet)", 11 VCC (power) "Input Supply Pin. Must be locally bypassed with high grade (X5R or better) ceramic capacitor. The minimum operating voltage for VCC is 4.75V.", 12 LVGATE (out) "Low Voltage Gate Pin. Connect the NMOS gate terminal to this pin when operating VCC below 8V. The internal gate driver will drive the voltage to the VCC rail. When operating VCC higher than 8V, tie this pin directly to VCC.", 13 HVGATE (out) "High Voltage Gate Pin. Connect NMOS gate terminal to this pin for all VCC operating voltages. Internal gate driver will drive the voltage to within VCC -2V during each switch cycle.", 14 RBG "Bias Generation Pin. Generates a bias current set by 0.98V/RBG. Select RBG to achieve desired resistance for RDCM, RVOUT, and RVTRANS.", 15 NC "No Connection.", 16 RVOUT (in) "Output Voltage Sense Pin. Develops a current proportional to the output capacitor voltage.", 17 RDCM (in) "Discontinuous Mode Sense Pin. Senses when the external NMOS drain is equal to 20uA ?RDCM + VTRANS and initiates the next switch cycle. Place a resistor equal to 0.45 times the resistor on the RVTRANS pin between this pi(See Datasheet)", 18 NC "No Connection.", 19 RVTRANS (in) "Transformer Supply Sense Pin. Connect a resistor between the RVTRANS pin and the VTRANS supply. Refer to Table 2 for proper sizing of the RVTRANS resistor. The minimum operation voltage for VTRANS is 4.75V.", 20 UVLO1 (in) "VTRANS Undervoltage Lockout Pin. Senses when VTRANS drops below: VUVLO1 = 1.225+ 50uA •RUVLO1 and trips the F\A\U\L\T\ latch low, disabling switching. After VTRANS rises above VUVLO1, toggling the CHARGE pin reactivate(See Datasheet)", 21 EP (power) "Ground. Tie directly to local ground plane."